# Altium schematic symbol library Buzzer.SchLib: 1 symbol
Pins are listed as number, name and electrical type; pins without a type are passive.

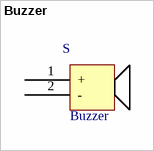
[diagram p0: symbol Buzzer]

## Buzzer
designator S  value Buzzer  (hidden comment: *)
Manufacturer: TDK; Manufacturer Code: PS1420P02CT; Fanell Code: 1669967; Voltage: 5V; Unit Price: 0,91 €
footprint Buzzer (Footprint not found)
pins: 1 +, 2 -